# Altium schematic symbol library TPS62177DQCR.SchLib: 1 symbol
Pins are listed as number, name and electrical type; pins without a type are passive.

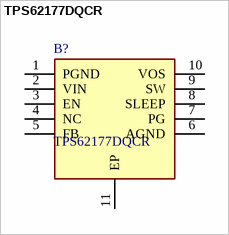
[diagram p0: symbol TPS62177DQCR]

## TPS62177DQCR
designator B?
TEXAS INSTRUMENTS - TPS62177DQCR - DC/DC CONV, SYNC BUCK, 1MHZ, WSON-10; Geometry.Height: 0.8mm; Manufacturer_Name: Texas Instruments; Manufacturer_Part_Number: TPS62177DQCR; Mouser Part Number: 595-TPS62177DQCR; Mouser Price/Stock: https://www.mouser.co.uk/ProductDetail/Texas-Instruments/TPS62177DQCR?qs=E2%2FxqS9xjzqbR7njM%2FaBpg%3D%3D; Arrow Part Number: TPS62177DQCR; Arrow Price/Stock: https://www.arrow.com/en/products/tps62177dqcr/texas-instruments.html?utm_currency=USD&region=nac; Datasheet Link: http://www.ti.com/general/docs/lit/getliterature.tsp?genericPartNumber=TPS62177&&fileType=pdf
footprint SON50P200X300X80-11N
pins: 1 PGND, 2 VIN, 3 EN, 4 NC, 5 FB, 6 AGND, 7 PG, 8 SLEEP, 9 SW, 10 VOS, 11 EP